# Altium schematic symbol library kmilo17pet-LT_OpAmp_LT2000.SchLib: 1710 symbols (part 63 of 75)
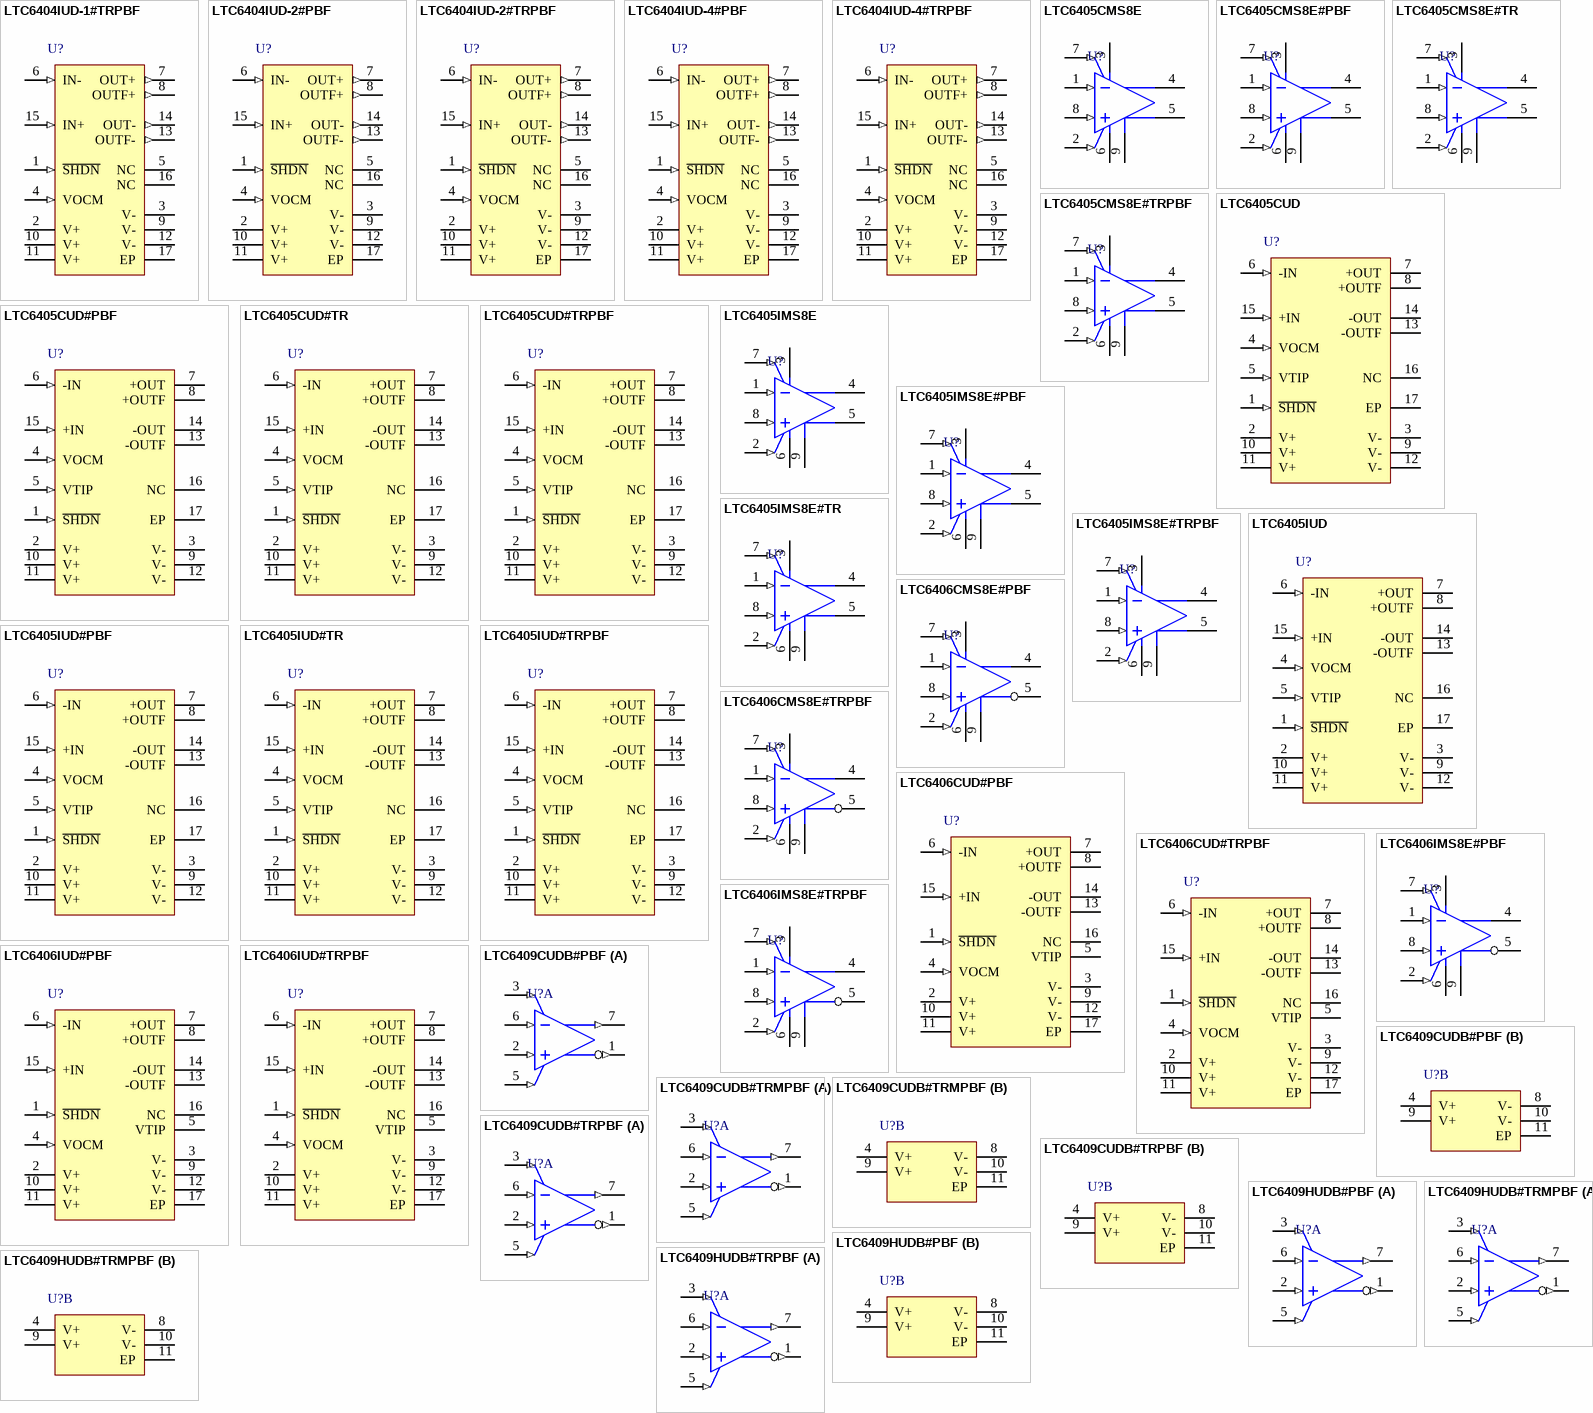
[diagram p142: symbols LTC6404IUD-1#TRPBF to LTC6409HUDB#TRPBF]

## LTC6406IMS8E#TRPBF
designator U?
Single Channel, Low Noise, Differential Amplifier / Driver, RRI, 3000 MHz Typical GBW, 630 V/us Typical SR, 2.7 to 3.5 V, 8-Pin SOP (MS8E-8), Industrial, Pb-Free, Reel; Linear Technology Part Number: LTC6406; Manufacturer: Linear Technology; PartNumber: LTC6406IMS8E#TRPBF; Channels (#): 1; GBW (MHz) Typical: 3000; Is (mA) Typical: 18; SR (V/us) Typical: 630; Vs Max (V): 3.5; Vs Min (V): 2.7; DatasheetVersion: Rev. C; PackageVersion: Rev J; PackageReference: LT-MS8E-8-EDP; PackageDescription: 8-Lead Plastic MSOP, Body 3.00 x 3.00 mm. Pitch 0.65 mm; Supplier 1: Digi-Key; Supplier Part Number 1: LTC6406IMS8E#TRPBF-ND; Supplier 2: Newark; Supplier Part Number 2: 75M4574; Packing: Reel; RoHS: Pb-Free; Type: DIFF; Vos (mV) Typical: 1; Mounting Technology: Surface Mount; ComponentLink1Description: Manufacturer URL; ComponentLink1URL: http://www.linear.com/; ComponentLink2Description: Datasheet; ComponentLink2URL: http://cds.linear.com/docs/en/datasheet/6406fc.pdf; ComponentLink3Description: Package Specification; ComponentLink3URL: http://cds.linear.com/docs/en/packaging/05081662_J_MS8E.pdf
footprint LT-MS8E-8-EDP_N (SOP, 8-Leads, Body 3x3mm, Pitch 0.65mm, Thermal Pad 1.88x1.68mm, IPC Medium Density)
footprint LT-MS8E-8-EDP_L (SOP, 8-Leads, Body 3x3mm, Pitch 0.65mm, Thermal Pad 1.88x1.68mm, IPC High Density)
footprint LT-MS8E-8-EDP_M (SOP, 8-Leads, Body 3x3mm, Pitch 0.65mm, Thermal Pad 1.88x1.68mm, IPC Low Density)
pins: 1 -IN (in) "Noninverting and Inverting Input Pins of the amplifier, respectively. For best performance, it is highly recommended that stray capacitance be kept to an absolute minimum by keeping printed circuit connections as  short as (See Datasheet)", 2 VOCM (in) "Output Common Mode Reference Voltage. The voltage on VOCM sets the output common mode voltage level (which is defined as the average of the voltages on the +OUT and -OUT pins). The VOCM voltage is internally set by a (See Datasheet)", 3 V+ (power) "Power Supply Pins. It is critical that close attention be paid to supply bypassing. For single supply applications it is recommended that a high quality 0.1uF surface mount ceramic bypass capacitor be placed between V+ and (See Datasheet)", 4 +OUT (hiz) "Unfiltered Output Pins. Besides driving the feedback network, each pin can drive an additional 50ohm to ground with typical shortcircuit current limiting of +/-55mA. Each amplifi er output is designed to drive a load (See Datasheet)", 5 -OUT (hiz) "Unfiltered Output Pins. Besides driving the feedback network, each pin can drive an additional 50ohm to ground with typical shortcircuit current limiting of +/-55mA. Each amplifi er output is designed to drive a load (See Datasheet)", 6 V- (power) "Power Supply Pins. It is critical that close attention be paid to supply bypassing. For single supply applications it is recommended that a high quality 0.1uF surface mount ceramic bypass capacitor be placed between V+ and (See Datasheet)", 7 ~{SHDN} (in) "When SHDN is floating or directly tied to V+, the LTC6406 is in the normal (active) operating mode. When the SHDN pin is connected to V-, the LTC6406 enters into a low power shutdown state with Hi-Z outputs.", 8 +IN (in) "Noninverting and Inverting Input Pins of the amplifier, respectively. For best performance, it is highly recommended that stray capacitance be kept to an absolute minimum by keeping printed circuit connections as  short as (See Datasheet)", 9 EP (power) "Tie the bottom pad to V-. If split supplies are used, DO NOT tie the pad to ground."

## LTC6406IUD#PBF
designator U?
Single Channel, Low Noise, Differential Amplifier / Driver, RRI, 3000 MHz Typical GBW, 630 V/us Typical SR, 2.7 to 3.5 V, 16-Pin QFN (UD-16), Industrial, Pb-Free; Linear Technology Part Number: LTC6406; Manufacturer: Linear Technology; PartNumber: LTC6406IUD#PBF; Channels (#): 1; GBW (MHz) Typical: 3000; Is (mA) Typical: 18; SR (V/us) Typical: 630; Vs Max (V): 3.5; Vs Min (V): 2.7; DatasheetVersion: Rev. C; PackageReference: LT-UD-16; PackageDescription: 16-Lead Plastic QFN, Body 3.00 x 3.00 mm, Pitch 0.5 mm; Supplier 1: Digi-Key; Supplier Part Number 1: LTC6406IUD#PBF-ND; Supplier 2: Farnell; Supplier Part Number 2: 1432103; Supplier 3: Newark; Supplier Part Number 3: 57M0128; RoHS: Pb-Free; Type: DIFF; Vos (mV) Typical: 1; Mounting Technology: Surface Mount; Code_JEDEC: MO-220; ComponentLink1Description: Manufacturer URL; ComponentLink1URL: http://www.linear.com/; ComponentLink2Description: Datasheet; ComponentLink2URL: http://cds.linear.com/docs/en/datasheet/6406fc.pdf; ComponentLink3Description: Package Specification; ComponentLink3URL: http://cds.linear.com/docs/en/packaging/QFN_16_05-08-1691.pdf
footprint LT-UD-16_N (QFN, 16-Leads, Body 3x3mm, Pitch 0.5mm, Thermal Pad 1.45x1.45mm, IPC Medium Density)
footprint LT-UD-16_L (QFN, 16-Leads, Body 3x3mm, Pitch 0.5mm, Thermal Pad 1.45x1.45mm, IPC High Density)
footprint LT-UD-16_M (QFN, 16-Leads, Body 3x3mm, Pitch 0.5mm, Thermal Pad 1.45x1.45mm, IPC Low Density)
pins: 1 ~{SHDN} (in) "When S\H\D\N\ is floating or directly tied to V+, the LTC6406 is in the normal (active) operating mode. When the S\H\D\N\ pin is connected to V-, the LTC6406 enters into a low power shutdown state with Hi-Z outputs.", 2 V+ (power) "PowerSupply Pins.", 3 V- (power) "PowerSupply Pins.", 4 VOCM (in) "Output Common Mode Reference Voltage.", 5 VTIP "This pin can normally be left floating.", 6 -IN (in) "Noninverting and Inverting Input Pins of the amplifi er, respectively. For best performance, it is highly recommended that stray capacitance be kept to an absolute minimum by keeping printed circuit connections as short as (See Datasheet)", 7 +OUT (hiz) "Unfiltered Output Pins. Besides driving the feedback network, each pin can drive an additional 50ohm to ground with typical shortcircuit current limiting of +/-55mA. Each amplifi er output is designed to drive a load (See Datasheet)", 8 +OUTF (hiz) "Filtered Output Pins. These pins have a series RC network (R = 50ohm, C = 3.75pF) connected between the fi ltered and unfi ltered outputs. See the Applications Information section for more details.", 9 V- (power) "PowerSupply Pins.", 10 V+ (power) "PowerSupply Pins.", 11 V+ (power) "PowerSupply Pins.", 12 V- (power) "PowerSupply Pins.", 13 -OUTF (hiz) "Filtered Output Pins. These pins have a series RC network (R = 50ohm, C = 3.75pF) connected between the fi ltered and unfi ltered outputs. See the Applications Information section for more details.", 14 -OUT (hiz) "Unfi ltered Output Pins. Besides driving the feedback network, each pin can drive an additional 50ohm to ground with typical shortcircuit current limiting of +/-55mA. Each amplifi er output is designed to drive a load (See Datasheet)", 15 +IN (in) "Noninverting and Inverting Input Pins of the amplifi er, respectively. For best performance, it is highly recommended that stray capacitance be kept to an absolute minimum by keeping printed circuit connections as short as (See Datasheet)", 16 NC "No Connection. This pin is not connected internally.", 17 EP (power) "Tie the bottom pad to V-. If split supplies are used, DO NOT tie the pad to ground."

## LTC6406IUD#TRPBF
designator U?
Single Channel, Low Noise, Differential Amplifier / Driver, RRI, 3000 MHz Typical GBW, 630 V/us Typical SR, 2.7 to 3.5 V, 16-Pin QFN (UD-16), Industrial, Pb-Free, Reel; Linear Technology Part Number: LTC6406; Manufacturer: Linear Technology; PartNumber: LTC6406IUD#TRPBF; Channels (#): 1; GBW (MHz) Typical: 3000; Is (mA) Typical: 18; SR (V/us) Typical: 630; Vs Max (V): 3.5; Vs Min (V): 2.7; DatasheetVersion: Rev. C; PackageReference: LT-UD-16; PackageDescription: 16-Lead Plastic QFN, Body 3.00 x 3.00 mm, Pitch 0.5 mm; Supplier 1: Digi-Key; Supplier Part Number 1: LTC6406IUD#TRPBF-ND; Supplier 2: Newark; Supplier Part Number 2: 57M0129; Packing: Reel; RoHS: Pb-Free; Type: DIFF; Vos (mV) Typical: 1; Mounting Technology: Surface Mount; Code_JEDEC: MO-220; ComponentLink1Description: Manufacturer URL; ComponentLink1URL: http://www.linear.com/; ComponentLink2Description: Datasheet; ComponentLink2URL: http://cds.linear.com/docs/en/datasheet/6406fc.pdf; ComponentLink3Description: Package Specification; ComponentLink3URL: http://cds.linear.com/docs/en/packaging/QFN_16_05-08-1691.pdf
footprint LT-UD-16_N (QFN, 16-Leads, Body 3x3mm, Pitch 0.5mm, Thermal Pad 1.45x1.45mm, IPC Medium Density)
footprint LT-UD-16_L (QFN, 16-Leads, Body 3x3mm, Pitch 0.5mm, Thermal Pad 1.45x1.45mm, IPC High Density)
footprint LT-UD-16_M (QFN, 16-Leads, Body 3x3mm, Pitch 0.5mm, Thermal Pad 1.45x1.45mm, IPC Low Density)
pins: 1 ~{SHDN} (in) "When S\H\D\N\ is floating or directly tied to V+, the LTC6406 is in the normal (active) operating mode. When the S\H\D\N\ pin is connected to V-, the LTC6406 enters into a low power shutdown state with Hi-Z outputs.", 2 V+ (power) "PowerSupply Pins.", 3 V- (power) "PowerSupply Pins.", 4 VOCM (in) "Output Common Mode Reference Voltage.", 5 VTIP "This pin can normally be left floating.", 6 -IN (in) "Noninverting and Inverting Input Pins of the amplifi er, respectively. For best performance, it is highly recommended that stray capacitance be kept to an absolute minimum by keeping printed circuit connections as short as (See Datasheet)", 7 +OUT (hiz) "Unfiltered Output Pins. Besides driving the feedback network, each pin can drive an additional 50ohm to ground with typical shortcircuit current limiting of +/-55mA. Each amplifi er output is designed to drive a load (See Datasheet)", 8 +OUTF (hiz) "Filtered Output Pins. These pins have a series RC network (R = 50ohm, C = 3.75pF) connected between the fi ltered and unfi ltered outputs. See the Applications Information section for more details.", 9 V- (power) "PowerSupply Pins.", 10 V+ (power) "PowerSupply Pins.", 11 V+ (power) "PowerSupply Pins.", 12 V- (power) "PowerSupply Pins.", 13 -OUTF (hiz) "Filtered Output Pins. These pins have a series RC network (R = 50ohm, C = 3.75pF) connected between the fi ltered and unfi ltered outputs. See the Applications Information section for more details.", 14 -OUT (hiz) "Unfi ltered Output Pins. Besides driving the feedback network, each pin can drive an additional 50ohm to ground with typical shortcircuit current limiting of +/-55mA. Each amplifi er output is designed to drive a load (See Datasheet)", 15 +IN (in) "Noninverting and Inverting Input Pins of the amplifi er, respectively. For best performance, it is highly recommended that stray capacitance be kept to an absolute minimum by keeping printed circuit connections as short as (See Datasheet)", 16 NC "No Connection. This pin is not connected internally.", 17 EP (power) "Tie the bottom pad to V-. If split supplies are used, DO NOT tie the pad to ground."

## LTC6409CUDB#PBF
designator U?
Single Channel, Differential Amplifier / ADC Driver, 10000 MHz Typical GBW, 3300 V/us Typical SR, 2.7 to 5.25 V, 10-Pin QFN (UDB10), Commercial, Pb-Free; Linear Technology Part Number: LTC6409; Manufacturer: Linear Technology; PartNumber: LTC6409CUDB#PBF; Channels (#): 1; GBW (MHz) Typical: 10000; Is (mA) Typical: 52; SR (V/us) Typical: 3300; Vos (mV) Typical: 0.3; Vs Max (V): 5.25; Vs Min (V): 2.7; DatasheetVersion: Rev. A; PackageVersion: Rev Ø; PackageReference: LT-UDB-10; PackageDescription: 10-Lead Plastic TQFN, Body 3 x 2 mm; Supplier 1: Farnell; Supplier Part Number 1: 2308163; Supplier 2: Newark; Supplier Part Number 2: 78T3480; RoHS: Pb-Free; Type: DIFF; Mounting Technology: Surface Mount; ComponentLink1Description: Manufacturer URL; ComponentLink1URL: http://www.linear.com/; ComponentLink2Description: Datasheet; ComponentLink2URL: http://cds.linear.com/docs/en/datasheet/6409fa.pdf; ComponentLink3Description: Package Specification; ComponentLink3URL: http://cds.linear.com/docs/en/packaging/TQFN_10_05-08-1848.pdf
footprint LT-UDB-10_N (QFN, 10-Leads, Body 3x2mm, Pitch 0.5mm, Thermal Pad 0.9x0.25mm, IPC Medium Density)
footprint LT-UDB-10_L (QFN, 10-Leads, Body 3x2mm, Pitch 0.5mm, Thermal Pad 0.9x0.25mm, IPC High Density)
footprint LT-UDB-10_M (QFN, 10-Leads, Body 3x2mm, Pitch 0.5mm, Thermal Pad 0.9x0.25mm, IPC Low Density)
part A pins: 1 -OUT (out) "Differential Output Pin.", 2 +IN (in) "Non-Inverting and Inverting Input Pins.", 3 ~{SHDN} (in) "When SHDN is floating or directly tied to V+, the LTC6409 is in the normal (active) operating mode. When the SHDN pin is connected to V-, the part is disabled and draws approximately 100uA of supply current.", 5 VOCM (in) "Output Common Mode Reference Voltage. The voltage on this pin sets the output common mode voltage level. If left floating, an internal resistor divider develops a default voltage of 1.25V with a 5V supply.", 6 -IN (in) "Non-Inverting and Inverting Input Pins.", 7 +OUT (out) "Differential Output Pin."
part B pins: 4 V+ (power) "Positive and Negative Power Supply Pins. Similar pins should be connected to the same voltage.", 8 V- (power) "Positive and Negative Power Supply Pins. Similar pins should be connected to the same voltage.", 9 V+ (power) "Positive and Negative Power Supply Pins. Similar pins should be connected to the same voltage.", 10 V- (power) "Positive and Negative Power Supply Pins. Similar pins should be connected to the same voltage.", 11 EP (power) "Tie the bottom pad to V-. If split supplies are used, DO NOT tie the pad to ground."

## LTC6409CUDB#TRMPBF
designator U?
Single Channel, Differential Amplifier / ADC Driver, 10000 MHz Typical GBW, 3300 V/us Typical SR, 2.7 to 5.25 V, 10-Pin QFN (UDB10), Commercial, Pb-Free, Mini Reel; Linear Technology Part Number: LTC6409; Manufacturer: Linear Technology; PartNumber: LTC6409CUDB#TRMPBF; Channels (#): 1; GBW (MHz) Typical: 10000; Is (mA) Typical: 52; SR (V/us) Typical: 3300; Vos (mV) Typical: 0.3; Vs Max (V): 5.25; Vs Min (V): 2.7; DatasheetVersion: Rev. A; PackageVersion: Rev Ø; PackageReference: LT-UDB-10; PackageDescription: 10-Lead Plastic TQFN, Body 3 x 2 mm; Supplier 1: Digi-Key; Supplier Part Number 1: LTC6409CUDB#TRMPBFTR-ND; Supplier 2: Digi-Key; Supplier Part Number 2: LTC6409CUDB#TRMPBFCT-ND; Supplier 3: Digi-Key; Supplier Part Number 3: LTC6409CUDB#TRMPBFDKR-ND; Supplier 4: Farnell; Supplier Part Number 4: 2115799; Supplier 5: Newark; Supplier Part Number 5: 24T2686; Supplier 6: Newark; Supplier Part Number 6: 13T4072; Packing: Mini Reel; RoHS: Pb-Free; Type: DIFF; Mounting Technology: Surface Mount; ComponentLink1Description: Manufacturer URL; ComponentLink1URL: http://www.linear.com/; ComponentLink2Description: Datasheet; ComponentLink2URL: http://cds.linear.com/docs/en/datasheet/6409fa.pdf; ComponentLink3Description: Package Specification; ComponentLink3URL: http://cds.linear.com/docs/en/packaging/TQFN_10_05-08-1848.pdf
footprint LT-UDB-10_N (QFN, 10-Leads, Body 3x2mm, Pitch 0.5mm, Thermal Pad 0.9x0.25mm, IPC Medium Density)
footprint LT-UDB-10_L (QFN, 10-Leads, Body 3x2mm, Pitch 0.5mm, Thermal Pad 0.9x0.25mm, IPC High Density)
footprint LT-UDB-10_M (QFN, 10-Leads, Body 3x2mm, Pitch 0.5mm, Thermal Pad 0.9x0.25mm, IPC Low Density)
part A pins: 1 -OUT (out) "Differential Output Pin.", 2 +IN (in) "Non-Inverting and Inverting Input Pins.", 3 ~{SHDN} (in) "When SHDN is floating or directly tied to V+, the LTC6409 is in the normal (active) operating mode. When the SHDN pin is connected to V-, the part is disabled and draws approximately 100uA of supply current.", 5 VOCM (in) "Output Common Mode Reference Voltage. The voltage on this pin sets the output common mode voltage level. If left floating, an internal resistor divider develops a default voltage of 1.25V with a 5V supply.", 6 -IN (in) "Non-Inverting and Inverting Input Pins.", 7 +OUT (out) "Differential Output Pin."
part B pins: 4 V+ (power) "Positive and Negative Power Supply Pins. Similar pins should be connected to the same voltage.", 8 V- (power) "Positive and Negative Power Supply Pins. Similar pins should be connected to the same voltage.", 9 V+ (power) "Positive and Negative Power Supply Pins. Similar pins should be connected to the same voltage.", 10 V- (power) "Positive and Negative Power Supply Pins. Similar pins should be connected to the same voltage.", 11 EP (power) "Tie the bottom pad to V-. If split supplies are used, DO NOT tie the pad to ground."

## LTC6409CUDB#TRPBF
designator U?
Single Channel, Differential Amplifier / ADC Driver, 10000 MHz Typical GBW, 3300 V/us Typical SR, 2.7 to 5.25 V, 10-Pin QFN (UDB10), Commercial, Pb-Free, Reel; Linear Technology Part Number: LTC6409; Manufacturer: Linear Technology; PartNumber: LTC6409CUDB#TRPBF; Channels (#): 1; GBW (MHz) Typical: 10000; Is (mA) Typical: 52; SR (V/us) Typical: 3300; Vos (mV) Typical: 0.3; Vs Max (V): 5.25; Vs Min (V): 2.7; DatasheetVersion: Rev. A; PackageVersion: Rev Ø; PackageReference: LT-UDB-10; PackageDescription: 10-Lead Plastic TQFN, Body 3 x 2 mm; Supplier 1: Digi-Key; Supplier Part Number 1: LTC6409CUDB#TRPBF-ND; Supplier 2: Newark; Supplier Part Number 2: 13T4073; Packing: Reel; RoHS: Pb-Free; Type: DIFF; Mounting Technology: Surface Mount; ComponentLink1Description: Manufacturer URL; ComponentLink1URL: http://www.linear.com/; ComponentLink2Description: Datasheet; ComponentLink2URL: http://cds.linear.com/docs/en/datasheet/6409fa.pdf; ComponentLink3Description: Package Specification; ComponentLink3URL: http://cds.linear.com/docs/en/packaging/TQFN_10_05-08-1848.pdf
footprint LT-UDB-10_N (QFN, 10-Leads, Body 3x2mm, Pitch 0.5mm, Thermal Pad 0.9x0.25mm, IPC Medium Density)
footprint LT-UDB-10_L (QFN, 10-Leads, Body 3x2mm, Pitch 0.5mm, Thermal Pad 0.9x0.25mm, IPC High Density)
footprint LT-UDB-10_M (QFN, 10-Leads, Body 3x2mm, Pitch 0.5mm, Thermal Pad 0.9x0.25mm, IPC Low Density)
part A pins: 1 -OUT (out) "Differential Output Pin.", 2 +IN (in) "Non-Inverting and Inverting Input Pins.", 3 ~{SHDN} (in) "When SHDN is floating or directly tied to V+, the LTC6409 is in the normal (active) operating mode. When the SHDN pin is connected to V-, the part is disabled and draws approximately 100uA of supply current.", 5 VOCM (in) "Output Common Mode Reference Voltage. The voltage on this pin sets the output common mode voltage level. If left floating, an internal resistor divider develops a default voltage of 1.25V with a 5V supply.", 6 -IN (in) "Non-Inverting and Inverting Input Pins.", 7 +OUT (out) "Differential Output Pin."
part B pins: 4 V+ (power) "Positive and Negative Power Supply Pins. Similar pins should be connected to the same voltage.", 8 V- (power) "Positive and Negative Power Supply Pins. Similar pins should be connected to the same voltage.", 9 V+ (power) "Positive and Negative Power Supply Pins. Similar pins should be connected to the same voltage.", 10 V- (power) "Positive and Negative Power Supply Pins. Similar pins should be connected to the same voltage.", 11 EP (power) "Tie the bottom pad to V-. If split supplies are used, DO NOT tie the pad to ground."

## LTC6409HUDB#PBF
designator U?
Single Channel, Differential Amplifier / ADC Driver, 10000 MHz Typical GBW, 3300 V/us Typical SR, 2.7 to 5.25 V, 10-Pin QFN (UDB10), High Temperature / Automotive, Pb-Free; Linear Technology Part Number: LTC6409; Manufacturer: Linear Technology; PartNumber: LTC6409HUDB#PBF; Channels (#): 1; GBW (MHz) Typical: 10000; Is (mA) Typical: 52; SR (V/us) Typical: 3300; Vos (mV) Typical: 0.3; Vs Max (V): 5.25; Vs Min (V): 2.7; DatasheetVersion: Rev. A; PackageVersion: Rev Ø; PackageReference: LT-UDB-10; PackageDescription: 10-Lead Plastic TQFN, Body 3 x 2 mm; Supplier 1: Newark; Supplier Part Number 1: 78T3481; RoHS: Pb-Free; Type: DIFF; Mounting Technology: Surface Mount; ComponentLink1Description: Manufacturer URL; ComponentLink1URL: http://www.linear.com/; ComponentLink2Description: Datasheet; ComponentLink2URL: http://cds.linear.com/docs/en/datasheet/6409fa.pdf; ComponentLink3Description: Package Specification; ComponentLink3URL: http://cds.linear.com/docs/en/packaging/TQFN_10_05-08-1848.pdf
footprint LT-UDB-10_N (QFN, 10-Leads, Body 3x2mm, Pitch 0.5mm, Thermal Pad 0.9x0.25mm, IPC Medium Density)
footprint LT-UDB-10_L (QFN, 10-Leads, Body 3x2mm, Pitch 0.5mm, Thermal Pad 0.9x0.25mm, IPC High Density)
footprint LT-UDB-10_M (QFN, 10-Leads, Body 3x2mm, Pitch 0.5mm, Thermal Pad 0.9x0.25mm, IPC Low Density)
part A pins: 1 -OUT (out) "Differential Output Pin.", 2 +IN (in) "Non-Inverting and Inverting Input Pins.", 3 ~{SHDN} (in) "When SHDN is floating or directly tied to V+, the LTC6409 is in the normal (active) operating mode. When the SHDN pin is connected to V-, the part is disabled and draws approximately 100uA of supply current.", 5 VOCM (in) "Output Common Mode Reference Voltage. The voltage on this pin sets the output common mode voltage level. If left floating, an internal resistor divider develops a default voltage of 1.25V with a 5V supply.", 6 -IN (in) "Non-Inverting and Inverting Input Pins.", 7 +OUT (out) "Differential Output Pin."
part B pins: 4 V+ (power) "Positive and Negative Power Supply Pins. Similar pins should be connected to the same voltage.", 8 V- (power) "Positive and Negative Power Supply Pins. Similar pins should be connected to the same voltage.", 9 V+ (power) "Positive and Negative Power Supply Pins. Similar pins should be connected to the same voltage.", 10 V- (power) "Positive and Negative Power Supply Pins. Similar pins should be connected to the same voltage.", 11 EP (power) "Tie the bottom pad to V-. If split supplies are used, DO NOT tie the pad to ground."

## LTC6409HUDB#TRMPBF
designator U?
Single Channel, Differential Amplifier / ADC Driver, 10000 MHz Typical GBW, 3300 V/us Typical SR, 2.7 to 5.25 V, 10-Pin QFN (UDB10), High Temperature / Automotive, Pb-Free, Mini Reel; Linear Technology Part Number: LTC6409; Manufacturer: Linear Technology; PartNumber: LTC6409HUDB#TRMPBF; Channels (#): 1; GBW (MHz) Typical: 10000; Is (mA) Typical: 52; SR (V/us) Typical: 3300; Vos (mV) Typical: 0.3; Vs Max (V): 5.25; Vs Min (V): 2.7; DatasheetVersion: Rev. A; PackageVersion: Rev Ø; PackageReference: LT-UDB-10; PackageDescription: 10-Lead Plastic TQFN, Body 3 x 2 mm; Supplier 1: Digi-Key; Supplier Part Number 1: LTC6409HUDB#TRMPBF-ND; Supplier 2: Newark; Supplier Part Number 2: 13T4074; Packing: Mini Reel; RoHS: Pb-Free; Type: DIFF; Mounting Technology: Surface Mount; ComponentLink1Description: Manufacturer URL; ComponentLink1URL: http://www.linear.com/; ComponentLink2Description: Datasheet; ComponentLink2URL: http://cds.linear.com/docs/en/datasheet/6409fa.pdf; ComponentLink3Description: Package Specification; ComponentLink3URL: http://cds.linear.com/docs/en/packaging/TQFN_10_05-08-1848.pdf
footprint LT-UDB-10_N (QFN, 10-Leads, Body 3x2mm, Pitch 0.5mm, Thermal Pad 0.9x0.25mm, IPC Medium Density)
footprint LT-UDB-10_L (QFN, 10-Leads, Body 3x2mm, Pitch 0.5mm, Thermal Pad 0.9x0.25mm, IPC High Density)
footprint LT-UDB-10_M (QFN, 10-Leads, Body 3x2mm, Pitch 0.5mm, Thermal Pad 0.9x0.25mm, IPC Low Density)
part A pins: 1 -OUT (out) "Differential Output Pin.", 2 +IN (in) "Non-Inverting and Inverting Input Pins.", 3 ~{SHDN} (in) "When SHDN is floating or directly tied to V+, the LTC6409 is in the normal (active) operating mode. When the SHDN pin is connected to V-, the part is disabled and draws approximately 100uA of supply current.", 5 VOCM (in) "Output Common Mode Reference Voltage. The voltage on this pin sets the output common mode voltage level. If left floating, an internal resistor divider develops a default voltage of 1.25V with a 5V supply.", 6 -IN (in) "Non-Inverting and Inverting Input Pins.", 7 +OUT (out) "Differential Output Pin."
part B pins: 4 V+ (power) "Positive and Negative Power Supply Pins. Similar pins should be connected to the same voltage.", 8 V- (power) "Positive and Negative Power Supply Pins. Similar pins should be connected to the same voltage.", 9 V+ (power) "Positive and Negative Power Supply Pins. Similar pins should be connected to the same voltage.", 10 V- (power) "Positive and Negative Power Supply Pins. Similar pins should be connected to the same voltage.", 11 EP (power) "Tie the bottom pad to V-. If split supplies are used, DO NOT tie the pad to ground."

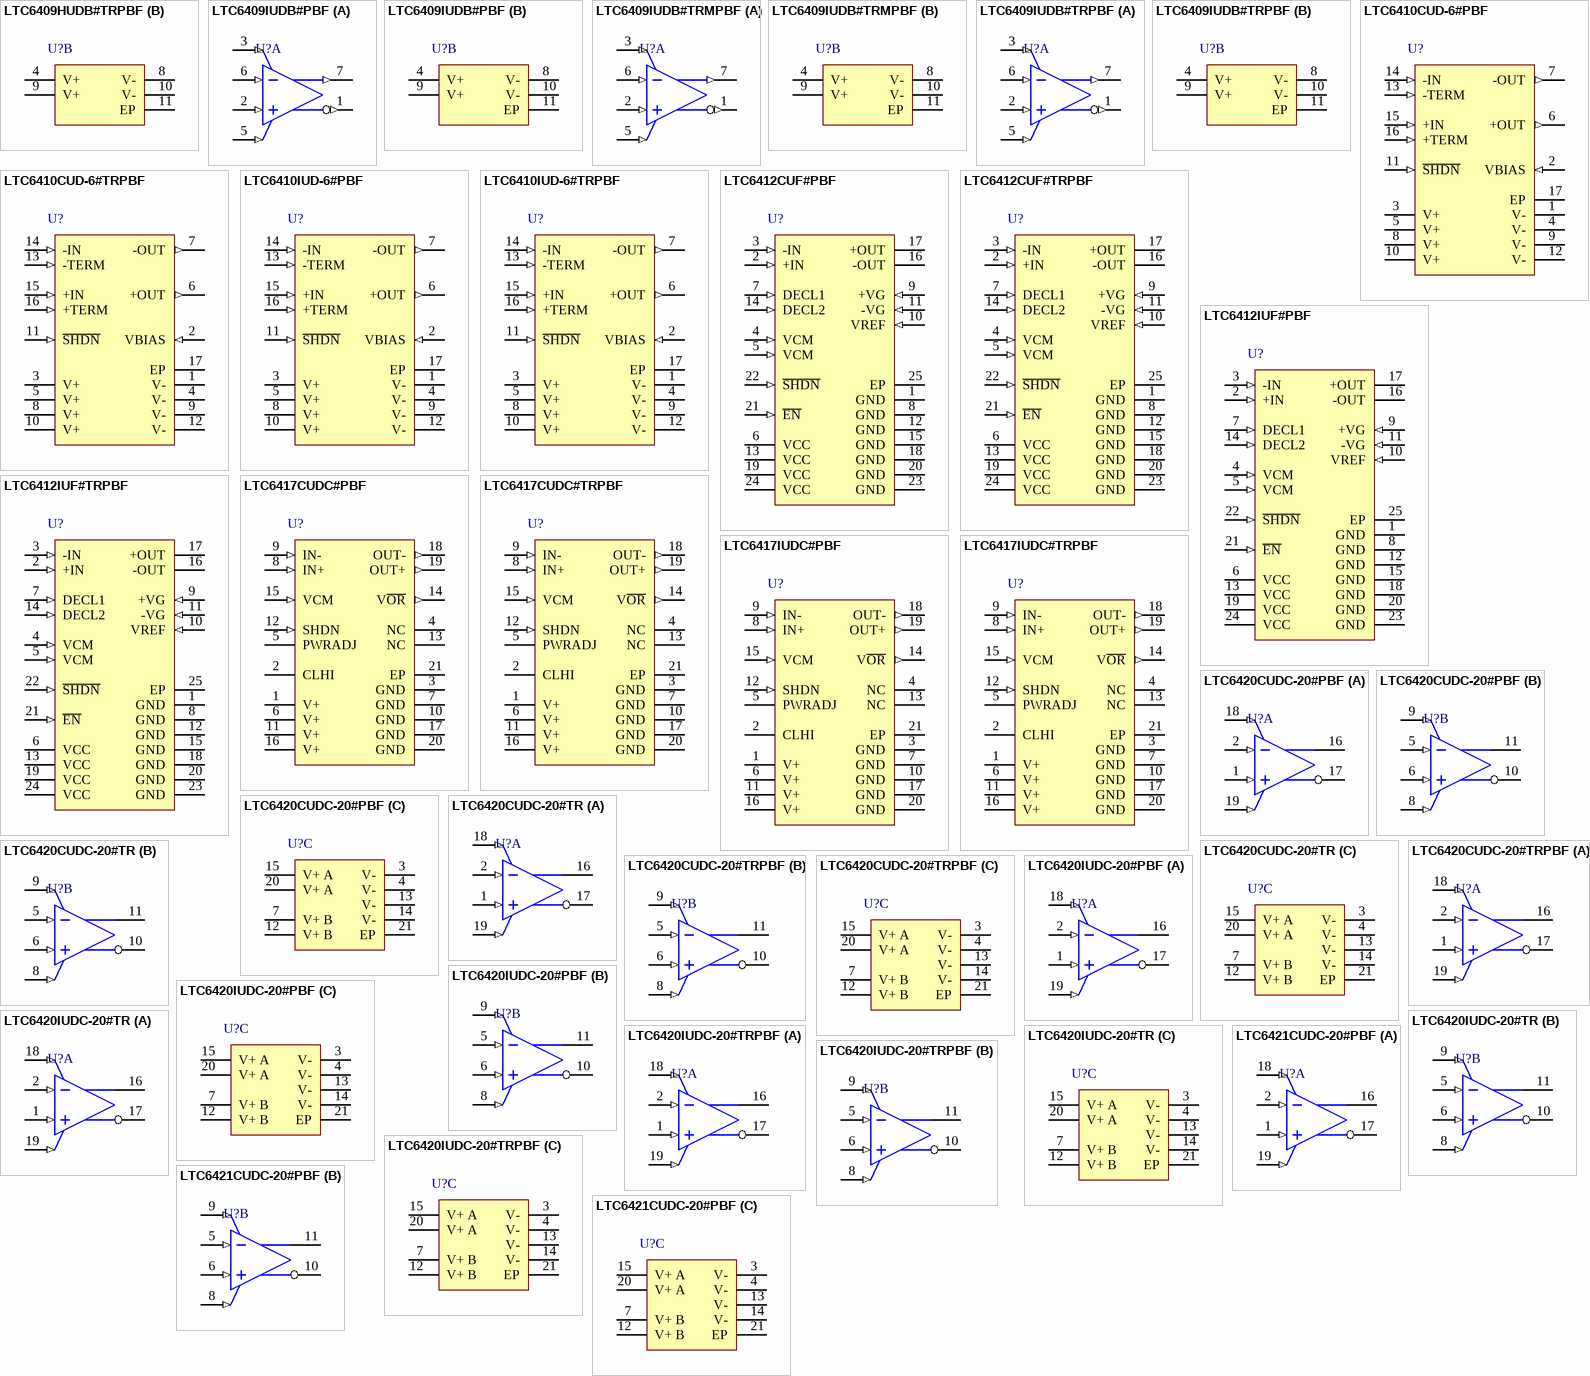
[diagram p75: symbols LTC6409HUDB#TRPBF to LTC6421CUDC-20#PBF]

## LTC6409HUDB#TRPBF
designator U?
Single Channel, Differential Amplifier / ADC Driver, 10000 MHz Typical GBW, 3300 V/us Typical SR, 2.7 to 5.25 V, 10-Pin QFN (UDB10), High Temperature / Automotive, Pb-Free, Reel; Linear Technology Part Number: LTC6409; Manufacturer: Linear Technology; PartNumber: LTC6409HUDB#TRPBF; Channels (#): 1; GBW (MHz) Typical: 10000; Is (mA) Typical: 52; SR (V/us) Typical: 3300; Vos (mV) Typical: 0.3; Vs Max (V): 5.25; Vs Min (V): 2.7; DatasheetVersion: Rev. A; PackageVersion: Rev Ø; PackageReference: LT-UDB-10; PackageDescription: 10-Lead Plastic TQFN, Body 3 x 2 mm; Supplier 1: Digi-Key; Supplier Part Number 1: LTC6409HUDB#TRPBF-ND; Supplier 2: Newark; Supplier Part Number 2: 13T4075; Packing: Reel; RoHS: Pb-Free; Type: DIFF; Mounting Technology: Surface Mount; ComponentLink1Description: Manufacturer URL; ComponentLink1URL: http://www.linear.com/; ComponentLink2Description: Datasheet; ComponentLink2URL: http://cds.linear.com/docs/en/datasheet/6409fa.pdf; ComponentLink3Description: Package Specification; ComponentLink3URL: http://cds.linear.com/docs/en/packaging/TQFN_10_05-08-1848.pdf
footprint LT-UDB-10_N (QFN, 10-Leads, Body 3x2mm, Pitch 0.5mm, Thermal Pad 0.9x0.25mm, IPC Medium Density)
footprint LT-UDB-10_L (QFN, 10-Leads, Body 3x2mm, Pitch 0.5mm, Thermal Pad 0.9x0.25mm, IPC High Density)
footprint LT-UDB-10_M (QFN, 10-Leads, Body 3x2mm, Pitch 0.5mm, Thermal Pad 0.9x0.25mm, IPC Low Density)
part A pins: 1 -OUT (out) "Differential Output Pin.", 2 +IN (in) "Non-Inverting and Inverting Input Pins.", 3 ~{SHDN} (in) "When SHDN is floating or directly tied to V+, the LTC6409 is in the normal (active) operating mode. When the SHDN pin is connected to V-, the part is disabled and draws approximately 100uA of supply current.", 5 VOCM (in) "Output Common Mode Reference Voltage. The voltage on this pin sets the output common mode voltage level. If left floating, an internal resistor divider develops a default voltage of 1.25V with a 5V supply.", 6 -IN (in) "Non-Inverting and Inverting Input Pins.", 7 +OUT (out) "Differential Output Pin."
part B pins: 4 V+ (power) "Positive and Negative Power Supply Pins. Similar pins should be connected to the same voltage.", 8 V- (power) "Positive and Negative Power Supply Pins. Similar pins should be connected to the same voltage.", 9 V+ (power) "Positive and Negative Power Supply Pins. Similar pins should be connected to the same voltage.", 10 V- (power) "Positive and Negative Power Supply Pins. Similar pins should be connected to the same voltage.", 11 EP (power) "Tie the bottom pad to V-. If split supplies are used, DO NOT tie the pad to ground."

## LTC6409IUDB#PBF
designator U?
Single Channel, Differential Amplifier / ADC Driver, 10000 MHz Typical GBW, 3300 V/us Typical SR, 2.7 to 5.25 V, 10-Pin QFN (UDB10), Industrial, Pb-Free; Linear Technology Part Number: LTC6409; Manufacturer: Linear Technology; PartNumber: LTC6409IUDB#PBF; Channels (#): 1; GBW (MHz) Typical: 10000; Is (mA) Typical: 52; SR (V/us) Typical: 3300; Vos (mV) Typical: 0.3; Vs Max (V): 5.25; Vs Min (V): 2.7; DatasheetVersion: Rev. A; PackageVersion: Rev Ø; PackageReference: LT-UDB-10; PackageDescription: 10-Lead Plastic TQFN, Body 3 x 2 mm; Supplier 1: Newark; Supplier Part Number 1: 78T3482; RoHS: Pb-Free; Type: DIFF; Mounting Technology: Surface Mount; ComponentLink1Description: Manufacturer URL; ComponentLink1URL: http://www.linear.com/; ComponentLink2Description: Datasheet; ComponentLink2URL: http://cds.linear.com/docs/en/datasheet/6409fa.pdf; ComponentLink3Description: Package Specification; ComponentLink3URL: http://cds.linear.com/docs/en/packaging/TQFN_10_05-08-1848.pdf
footprint LT-UDB-10_N (QFN, 10-Leads, Body 3x2mm, Pitch 0.5mm, Thermal Pad 0.9x0.25mm, IPC Medium Density)
footprint LT-UDB-10_L (QFN, 10-Leads, Body 3x2mm, Pitch 0.5mm, Thermal Pad 0.9x0.25mm, IPC High Density)
footprint LT-UDB-10_M (QFN, 10-Leads, Body 3x2mm, Pitch 0.5mm, Thermal Pad 0.9x0.25mm, IPC Low Density)
part A pins: 1 -OUT (out) "Differential Output Pin.", 2 +IN (in) "Non-Inverting and Inverting Input Pins.", 3 ~{SHDN} (in) "When SHDN is floating or directly tied to V+, the LTC6409 is in the normal (active) operating mode. When the SHDN pin is connected to V-, the part is disabled and draws approximately 100uA of supply current.", 5 VOCM (in) "Output Common Mode Reference Voltage. The voltage on this pin sets the output common mode voltage level. If left floating, an internal resistor divider develops a default voltage of 1.25V with a 5V supply.", 6 -IN (in) "Non-Inverting and Inverting Input Pins.", 7 +OUT (out) "Differential Output Pin."
part B pins: 4 V+ (power) "Positive and Negative Power Supply Pins. Similar pins should be connected to the same voltage.", 8 V- (power) "Positive and Negative Power Supply Pins. Similar pins should be connected to the same voltage.", 9 V+ (power) "Positive and Negative Power Supply Pins. Similar pins should be connected to the same voltage.", 10 V- (power) "Positive and Negative Power Supply Pins. Similar pins should be connected to the same voltage.", 11 EP (power) "Tie the bottom pad to V-. If split supplies are used, DO NOT tie the pad to ground."

## LTC6409IUDB#TRMPBF
designator U?
Single Channel, Differential Amplifier / ADC Driver, 10000 MHz Typical GBW, 3300 V/us Typical SR, 2.7 to 5.25 V, 10-Pin QFN (UDB10), Industrial, Pb-Free, Mini Reel; Linear Technology Part Number: LTC6409; Manufacturer: Linear Technology; PartNumber: LTC6409IUDB#TRMPBF; Channels (#): 1; GBW (MHz) Typical: 10000; Is (mA) Typical: 52; SR (V/us) Typical: 3300; Vos (mV) Typical: 0.3; Vs Max (V): 5.25; Vs Min (V): 2.7; DatasheetVersion: Rev. A; PackageVersion: Rev Ø; PackageReference: LT-UDB-10; PackageDescription: 10-Lead Plastic TQFN, Body 3 x 2 mm; Supplier 1: Digi-Key; Supplier Part Number 1: LTC6409IUDB#TRMPBF-ND; Supplier 2: Newark; Supplier Part Number 2: 13T4076; Packing: Mini Reel; RoHS: Pb-Free; Type: DIFF; Mounting Technology: Surface Mount; ComponentLink1Description: Manufacturer URL; ComponentLink1URL: http://www.linear.com/; ComponentLink2Description: Datasheet; ComponentLink2URL: http://cds.linear.com/docs/en/datasheet/6409fa.pdf; ComponentLink3Description: Package Specification; ComponentLink3URL: http://cds.linear.com/docs/en/packaging/TQFN_10_05-08-1848.pdf
footprint LT-UDB-10_N (QFN, 10-Leads, Body 3x2mm, Pitch 0.5mm, Thermal Pad 0.9x0.25mm, IPC Medium Density)
footprint LT-UDB-10_L (QFN, 10-Leads, Body 3x2mm, Pitch 0.5mm, Thermal Pad 0.9x0.25mm, IPC High Density)
footprint LT-UDB-10_M (QFN, 10-Leads, Body 3x2mm, Pitch 0.5mm, Thermal Pad 0.9x0.25mm, IPC Low Density)
part A pins: 1 -OUT (out) "Differential Output Pin.", 2 +IN (in) "Non-Inverting and Inverting Input Pins.", 3 ~{SHDN} (in) "When SHDN is floating or directly tied to V+, the LTC6409 is in the normal (active) operating mode. When the SHDN pin is connected to V-, the part is disabled and draws approximately 100uA of supply current.", 5 VOCM (in) "Output Common Mode Reference Voltage. The voltage on this pin sets the output common mode voltage level. If left floating, an internal resistor divider develops a default voltage of 1.25V with a 5V supply.", 6 -IN (in) "Non-Inverting and Inverting Input Pins.", 7 +OUT (out) "Differential Output Pin."
part B pins: 4 V+ (power) "Positive and Negative Power Supply Pins. Similar pins should be connected to the same voltage.", 8 V- (power) "Positive and Negative Power Supply Pins. Similar pins should be connected to the same voltage.", 9 V+ (power) "Positive and Negative Power Supply Pins. Similar pins should be connected to the same voltage.", 10 V- (power) "Positive and Negative Power Supply Pins. Similar pins should be connected to the same voltage.", 11 EP (power) "Tie the bottom pad to V-. If split supplies are used, DO NOT tie the pad to ground."

## LTC6409IUDB#TRPBF
designator U?
Single Channel, Differential Amplifier / ADC Driver, 10000 MHz Typical GBW, 3300 V/us Typical SR, 2.7 to 5.25 V, 10-Pin QFN (UDB10), Industrial, Pb-Free, Reel; Linear Technology Part Number: LTC6409; Manufacturer: Linear Technology; PartNumber: LTC6409IUDB#TRPBF; Channels (#): 1; GBW (MHz) Typical: 10000; Is (mA) Typical: 52; SR (V/us) Typical: 3300; Vos (mV) Typical: 0.3; Vs Max (V): 5.25; Vs Min (V): 2.7; DatasheetVersion: Rev. A; PackageVersion: Rev Ø; PackageReference: LT-UDB-10; PackageDescription: 10-Lead Plastic TQFN, Body 3 x 2 mm; Supplier 1: Digi-Key; Supplier Part Number 1: LTC6409IUDB#TRPBF-ND; Supplier 2: Newark; Supplier Part Number 2: 13T4077; Packing: Reel; RoHS: Pb-Free; Type: DIFF; Mounting Technology: Surface Mount; ComponentLink1Description: Manufacturer URL; ComponentLink1URL: http://www.linear.com/; ComponentLink2Description: Datasheet; ComponentLink2URL: http://cds.linear.com/docs/en/datasheet/6409fa.pdf; ComponentLink3Description: Package Specification; ComponentLink3URL: http://cds.linear.com/docs/en/packaging/TQFN_10_05-08-1848.pdf
footprint LT-UDB-10_N (QFN, 10-Leads, Body 3x2mm, Pitch 0.5mm, Thermal Pad 0.9x0.25mm, IPC Medium Density)
footprint LT-UDB-10_L (QFN, 10-Leads, Body 3x2mm, Pitch 0.5mm, Thermal Pad 0.9x0.25mm, IPC High Density)
footprint LT-UDB-10_M (QFN, 10-Leads, Body 3x2mm, Pitch 0.5mm, Thermal Pad 0.9x0.25mm, IPC Low Density)
part A pins: 1 -OUT (out) "Differential Output Pin.", 2 +IN (in) "Non-Inverting and Inverting Input Pins.", 3 ~{SHDN} (in) "When SHDN is floating or directly tied to V+, the LTC6409 is in the normal (active) operating mode. When the SHDN pin is connected to V-, the part is disabled and draws approximately 100uA of supply current.", 5 VOCM (in) "Output Common Mode Reference Voltage. The voltage on this pin sets the output common mode voltage level. If left floating, an internal resistor divider develops a default voltage of 1.25V with a 5V supply.", 6 -IN (in) "Non-Inverting and Inverting Input Pins.", 7 +OUT (out) "Differential Output Pin."
part B pins: 4 V+ (power) "Positive and Negative Power Supply Pins. Similar pins should be connected to the same voltage.", 8 V- (power) "Positive and Negative Power Supply Pins. Similar pins should be connected to the same voltage.", 9 V+ (power) "Positive and Negative Power Supply Pins. Similar pins should be connected to the same voltage.", 10 V- (power) "Positive and Negative Power Supply Pins. Similar pins should be connected to the same voltage.", 11 EP (power) "Tie the bottom pad to V-. If split supplies are used, DO NOT tie the pad to ground."

## LTC6410CUD-6#PBF
designator U?
Single Channel, Low Distortion, Low Noise Differential IF Amplifier with Configurable Input Impedance, 1400 MHz Typical GBW, 1500 V/us Typical SR, 2.8 to 5.5 V, 16-Pin QFN (UD-16), Commercial, Pb-Free; Linear Technology Part Number: LTC6410-6; Manufacturer: Linear Technology; PartNumber: LTC6410CUD-6#PBF; Channels (#): 1; GBW (MHz) Typical: 1400; Is (mA) Typical: 104; SR (V/us) Typical: 1500; Vos (mV) Typical: 0.4; Vs Max (V): 5.5; Vs Min (V): 2.8; DatasheetVersion: Rev. A; PackageReference: LT-UD-16; PackageDescription: 16-Lead Plastic QFN, Body 3.00 x 3.00 mm, Pitch 0.5 mm; Supplier 1: Digi-Key; Supplier Part Number 1: LTC6410CUD-6#PBF-ND; Supplier 2: Newark; Supplier Part Number 2: 75M4575; RoHS: Pb-Free; Type: DIFF; Mounting Technology: Surface Mount; Code_JEDEC: MO-220; ComponentLink1Description: Manufacturer URL; ComponentLink1URL: http://www.linear.com/; ComponentLink2Description: Datasheet; ComponentLink2URL: http://cds.linear.com/docs/en/datasheet/64106fa.pdf; ComponentLink3Description: Package Specification; ComponentLink3URL: http://cds.linear.com/docs/en/packaging/QFN_16_05-08-1691.pdf
footprint LT-UD-16_N (QFN, 16-Leads, Body 3x3mm, Pitch 0.5mm, Thermal Pad 1.45x1.45mm, IPC Medium Density)
footprint LT-UD-16_L (QFN, 16-Leads, Body 3x3mm, Pitch 0.5mm, Thermal Pad 1.45x1.45mm, IPC High Density)
footprint LT-UD-16_M (QFN, 16-Leads, Body 3x3mm, Pitch 0.5mm, Thermal Pad 1.45x1.45mm, IPC Low Density)
pins: 1 V- (power) "Negative Power Supply (Normally Tied to Ground). All 5 pins must be tied to the same voltage. V- maybe tied to a voltage other than ground as long as the voltage between V+ and V- is 2.8V to 5.5V. If the V- pins are not tied (See Datasheet)", 2 VBIAS (in) "This pin sets the input and output common mode voltage by driving the +IN and -IN through a buffer with a high output resistance of 1k. If the part is AC-coupled at the input, the VBIAS will set the VINCM and therefore the (See Datasheet)", 3 V+ (power) "Positive Power Supply. All 4 pins must be tied to the same voltage. Split supplies are possible as long as the voltage between V+ and V- is 2.8V to 5.5V. Bypass capacitors of 680pF and 0.1uF as close to the part as possible (See Datasheet)", 4 V- (power) "Negative Power Supply (Normally Tied to Ground). All 5 pins must be tied to the same voltage. V- maybe tied to a voltage other than ground as long as the voltage between V+ and V- is 2.8V to 5.5V. If the V- pins are not tied (See Datasheet)", 5 V+ (power) "Positive Power Supply. All 4 pins must be tied to the same voltage. Split supplies are possible as long as the voltage between V+ and V- is 2.8V to 5.5V. Bypass capacitors of 680pF and 0.1uF as close to the part as possible (See Datasheet)", 6 +OUT (out) "Output. These pins each have internal series termination resistors forming a differential output resistance.", 7 -OUT (out) "Output. These pins each have internal series termination resistors forming a differential output resistance.", 8 V+ (power) "Positive Power Supply. All 4 pins must be tied to the same voltage. Split supplies are possible as long as the voltage between V+ and V- is 2.8V to 5.5V. Bypass capacitors of 680pF and 0.1uF as close to the part as possible (See Datasheet)", 9 V- (power) "Negative Power Supply (Normally Tied to Ground). All 5 pins must be tied to the same voltage. V- maybe tied to a voltage other than ground as long as the voltage between V+ and V- is 2.8V to 5.5V. If the V- pins are not tied (See Datasheet)", 10 V+ (power) "Positive Power Supply. All 4 pins must be tied to the same voltage. Split supplies are possible as long as the voltage between V+ and V- is 2.8V to 5.5V. Bypass capacitors of 680pF and 0.1uF as close to the part as possible (See Datasheet)", 11 ~{SHDN} (in) "This pin is internally pulled high by a typically 30k resistor to V+. By pulling this pin low the supply current will be reduced to typically 3mA. See DC Electrical Characteristics table for the specifi c logic levels.", 12 V- (power) "Negative Power Supply (Normally Tied to Ground). All 5 pins must be tied to the same voltage. V- maybe tied to a voltage other than ground as long as the voltage between V+ and V- is 2.8V to 5.5V. If the V- pins are not tied (See Datasheet)", 13 -TERM (in) "Negative Input Termination. When tied directly to -IN, it provides an active 50ohm differential termination when +TERM is also tied directly to +IN.", 14 -IN (in) "Negative Input. This pin is normally tied to -TERM, the input termination pin. If AC-coupled, this pin will self bias by VBIAS.", 15 +IN (in) "Positive Input. This pin is normally tied to +TERM, the input termination pin. If AC-coupled, this pin will self bias by VBIAS.", 16 +TERM (in) "Positive Input Termination. When tied directly to +IN, it provides an active 50ohm differential termination when -TERM is also tied directly to -IN.", 17 EP (power) "V-. The Exposed Pad must be soldered to the PCB metal."

## LTC6410CUD-6#TRPBF
designator U?
Single Channel, Low Distortion, Low Noise Differential IF Amplifier with Configurable Input Impedance, 1400 MHz Typical GBW, 1500 V/us Typical SR, 2.8 to 5.5 V, 16-Pin QFN (UD-16), Commercial, Pb-Free, Reel; Linear Technology Part Number: LTC6410-6; Manufacturer: Linear Technology; PartNumber: LTC6410CUD-6#TRPBF; Channels (#): 1; GBW (MHz) Typical: 1400; Is (mA) Typical: 104; SR (V/us) Typical: 1500; Vos (mV) Typical: 0.4; Vs Max (V): 5.5; Vs Min (V): 2.8; DatasheetVersion: Rev. A; PackageReference: LT-UD-16; PackageDescription: 16-Lead Plastic QFN, Body 3.00 x 3.00 mm, Pitch 0.5 mm; Supplier 1: Digi-Key; Supplier Part Number 1: LTC6410CUD-6#TRPBF-ND; Supplier 2: Newark; Supplier Part Number 2: 75M4576; Packing: Reel; RoHS: Pb-Free; Type: DIFF; Mounting Technology: Surface Mount; Code_JEDEC: MO-220; ComponentLink1Description: Manufacturer URL; ComponentLink1URL: http://www.linear.com/; ComponentLink2Description: Datasheet; ComponentLink2URL: http://cds.linear.com/docs/en/datasheet/64106fa.pdf; ComponentLink3Description: Package Specification; ComponentLink3URL: http://cds.linear.com/docs/en/packaging/QFN_16_05-08-1691.pdf
footprint LT-UD-16_N (QFN, 16-Leads, Body 3x3mm, Pitch 0.5mm, Thermal Pad 1.45x1.45mm, IPC Medium Density)
footprint LT-UD-16_L (QFN, 16-Leads, Body 3x3mm, Pitch 0.5mm, Thermal Pad 1.45x1.45mm, IPC High Density)
footprint LT-UD-16_M (QFN, 16-Leads, Body 3x3mm, Pitch 0.5mm, Thermal Pad 1.45x1.45mm, IPC Low Density)
pins: 1 V- (power) "Negative Power Supply (Normally Tied to Ground). All 5 pins must be tied to the same voltage. V- maybe tied to a voltage other than ground as long as the voltage between V+ and V- is 2.8V to 5.5V. If the V- pins are not tied (See Datasheet)", 2 VBIAS (in) "This pin sets the input and output common mode voltage by driving the +IN and -IN through a buffer with a high output resistance of 1k. If the part is AC-coupled at the input, the VBIAS will set the VINCM and therefore the (See Datasheet)", 3 V+ (power) "Positive Power Supply. All 4 pins must be tied to the same voltage. Split supplies are possible as long as the voltage between V+ and V- is 2.8V to 5.5V. Bypass capacitors of 680pF and 0.1uF as close to the part as possible (See Datasheet)", 4 V- (power) "Negative Power Supply (Normally Tied to Ground). All 5 pins must be tied to the same voltage. V- maybe tied to a voltage other than ground as long as the voltage between V+ and V- is 2.8V to 5.5V. If the V- pins are not tied (See Datasheet)", 5 V+ (power) "Positive Power Supply. All 4 pins must be tied to the same voltage. Split supplies are possible as long as the voltage between V+ and V- is 2.8V to 5.5V. Bypass capacitors of 680pF and 0.1uF as close to the part as possible (See Datasheet)", 6 +OUT (out) "Output. These pins each have internal series termination resistors forming a differential output resistance.", 7 -OUT (out) "Output. These pins each have internal series termination resistors forming a differential output resistance.", 8 V+ (power) "Positive Power Supply. All 4 pins must be tied to the same voltage. Split supplies are possible as long as the voltage between V+ and V- is 2.8V to 5.5V. Bypass capacitors of 680pF and 0.1uF as close to the part as possible (See Datasheet)", 9 V- (power) "Negative Power Supply (Normally Tied to Ground). All 5 pins must be tied to the same voltage. V- maybe tied to a voltage other than ground as long as the voltage between V+ and V- is 2.8V to 5.5V. If the V- pins are not tied (See Datasheet)", 10 V+ (power) "Positive Power Supply. All 4 pins must be tied to the same voltage. Split supplies are possible as long as the voltage between V+ and V- is 2.8V to 5.5V. Bypass capacitors of 680pF and 0.1uF as close to the part as possible (See Datasheet)", 11 ~{SHDN} (in) "This pin is internally pulled high by a typically 30k resistor to V+. By pulling this pin low the supply current will be reduced to typically 3mA. See DC Electrical Characteristics table for the specifi c logic levels.", 12 V- (power) "Negative Power Supply (Normally Tied to Ground). All 5 pins must be tied to the same voltage. V- maybe tied to a voltage other than ground as long as the voltage between V+ and V- is 2.8V to 5.5V. If the V- pins are not tied (See Datasheet)", 13 -TERM (in) "Negative Input Termination. When tied directly to -IN, it provides an active 50ohm differential termination when +TERM is also tied directly to +IN.", 14 -IN (in) "Negative Input. This pin is normally tied to -TERM, the input termination pin. If AC-coupled, this pin will self bias by VBIAS.", 15 +IN (in) "Positive Input. This pin is normally tied to +TERM, the input termination pin. If AC-coupled, this pin will self bias by VBIAS.", 16 +TERM (in) "Positive Input Termination. When tied directly to +IN, it provides an active 50ohm differential termination when -TERM is also tied directly to -IN.", 17 EP (power) "V-. The Exposed Pad must be soldered to the PCB metal."

## LTC6410IUD-6#PBF
designator U?
Single Channel, Low Distortion, Low Noise Differential IF Amplifier with Configurable Input Impedance, 1400 MHz Typical GBW, 1500 V/us Typical SR, 2.8 to 5.5 V, 16-Pin QFN (UD-16), Industrial, Pb-Free; Linear Technology Part Number: LTC6410-6; Manufacturer: Linear Technology; PartNumber: LTC6410IUD-6#PBF; Channels (#): 1; GBW (MHz) Typical: 1400; Is (mA) Typical: 104; SR (V/us) Typical: 1500; Vos (mV) Typical: 0.4; Vs Max (V): 5.5; Vs Min (V): 2.8; DatasheetVersion: Rev. A; PackageReference: LT-UD-16; PackageDescription: 16-Lead Plastic QFN, Body 3.00 x 3.00 mm, Pitch 0.5 mm; Supplier 1: Digi-Key; Supplier Part Number 1: LTC6410IUD-6#PBF-ND; Supplier 2: Newark; Supplier Part Number 2: 75M4577; RoHS: Pb-Free; Type: DIFF; Mounting Technology: Surface Mount; Code_JEDEC: MO-220; ComponentLink1Description: Manufacturer URL; ComponentLink1URL: http://www.linear.com/; ComponentLink2Description: Datasheet; ComponentLink2URL: http://cds.linear.com/docs/en/datasheet/64106fa.pdf; ComponentLink3Description: Package Specification; ComponentLink3URL: http://cds.linear.com/docs/en/packaging/QFN_16_05-08-1691.pdf
footprint LT-UD-16_N (QFN, 16-Leads, Body 3x3mm, Pitch 0.5mm, Thermal Pad 1.45x1.45mm, IPC Medium Density)
footprint LT-UD-16_L (QFN, 16-Leads, Body 3x3mm, Pitch 0.5mm, Thermal Pad 1.45x1.45mm, IPC High Density)
footprint LT-UD-16_M (QFN, 16-Leads, Body 3x3mm, Pitch 0.5mm, Thermal Pad 1.45x1.45mm, IPC Low Density)
pins: 1 V- (power) "Negative Power Supply (Normally Tied to Ground). All 5 pins must be tied to the same voltage. V- maybe tied to a voltage other than ground as long as the voltage between V+ and V- is 2.8V to 5.5V. If the V- pins are not tied (See Datasheet)", 2 VBIAS (in) "This pin sets the input and output common mode voltage by driving the +IN and -IN through a buffer with a high output resistance of 1k. If the part is AC-coupled at the input, the VBIAS will set the VINCM and therefore the (See Datasheet)", 3 V+ (power) "Positive Power Supply. All 4 pins must be tied to the same voltage. Split supplies are possible as long as the voltage between V+ and V- is 2.8V to 5.5V. Bypass capacitors of 680pF and 0.1uF as close to the part as possible (See Datasheet)", 4 V- (power) "Negative Power Supply (Normally Tied to Ground). All 5 pins must be tied to the same voltage. V- maybe tied to a voltage other than ground as long as the voltage between V+ and V- is 2.8V to 5.5V. If the V- pins are not tied (See Datasheet)", 5 V+ (power) "Positive Power Supply. All 4 pins must be tied to the same voltage. Split supplies are possible as long as the voltage between V+ and V- is 2.8V to 5.5V. Bypass capacitors of 680pF and 0.1uF as close to the part as possible (See Datasheet)", 6 +OUT (out) "Output. These pins each have internal series termination resistors forming a differential output resistance.", 7 -OUT (out) "Output. These pins each have internal series termination resistors forming a differential output resistance.", 8 V+ (power) "Positive Power Supply. All 4 pins must be tied to the same voltage. Split supplies are possible as long as the voltage between V+ and V- is 2.8V to 5.5V. Bypass capacitors of 680pF and 0.1uF as close to the part as possible (See Datasheet)", 9 V- (power) "Negative Power Supply (Normally Tied to Ground). All 5 pins must be tied to the same voltage. V- maybe tied to a voltage other than ground as long as the voltage between V+ and V- is 2.8V to 5.5V. If the V- pins are not tied (See Datasheet)", 10 V+ (power) "Positive Power Supply. All 4 pins must be tied to the same voltage. Split supplies are possible as long as the voltage between V+ and V- is 2.8V to 5.5V. Bypass capacitors of 680pF and 0.1uF as close to the part as possible (See Datasheet)", 11 ~{SHDN} (in) "This pin is internally pulled high by a typically 30k resistor to V+. By pulling this pin low the supply current will be reduced to typically 3mA. See DC Electrical Characteristics table for the specifi c logic levels.", 12 V- (power) "Negative Power Supply (Normally Tied to Ground). All 5 pins must be tied to the same voltage. V- maybe tied to a voltage other than ground as long as the voltage between V+ and V- is 2.8V to 5.5V. If the V- pins are not tied (See Datasheet)", 13 -TERM (in) "Negative Input Termination. When tied directly to -IN, it provides an active 50ohm differential termination when +TERM is also tied directly to +IN.", 14 -IN (in) "Negative Input. This pin is normally tied to -TERM, the input termination pin. If AC-coupled, this pin will self bias by VBIAS.", 15 +IN (in) "Positive Input. This pin is normally tied to +TERM, the input termination pin. If AC-coupled, this pin will self bias by VBIAS.", 16 +TERM (in) "Positive Input Termination. When tied directly to +IN, it provides an active 50ohm differential termination when -TERM is also tied directly to -IN.", 17 EP (power) "V-. The Exposed Pad must be soldered to the PCB metal."